# Altium schematic symbol library 1N4002.SchLib: 1 symbol
Pins are listed as number, name and electrical type; pins without a type are passive.

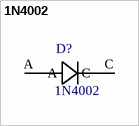
[diagram p0: symbol 1N4002]

## 1N4002
designator D?
Diode Gen Purp 100v 1a Do41; MF: ON Semiconductor; Availability: Unavailable; MP: 1N4002; Price: None; Package: DO-204 MCC; SnapEDA_Link: https://www.snapeda.com/parts/1N4002/ON%20Semiconductor/view-part/?ref=snap; Value: *
footprint *DIOAD520W79L463D238_1N4002(Primary)
pins: A, C